# Altium footprint library ADM4168EBRUZ.PcbLib: 3 footprints
Each footprint in its own frame and in the unit in brackets; x right, y up, seen from the top. Pads: shape width x height; smd on the part's side, far side on the other; paste and mask are expansions set on the pad; w line width, h text height; cw(c..) or ccw(c..) is an arc to the next point about the centre after c.
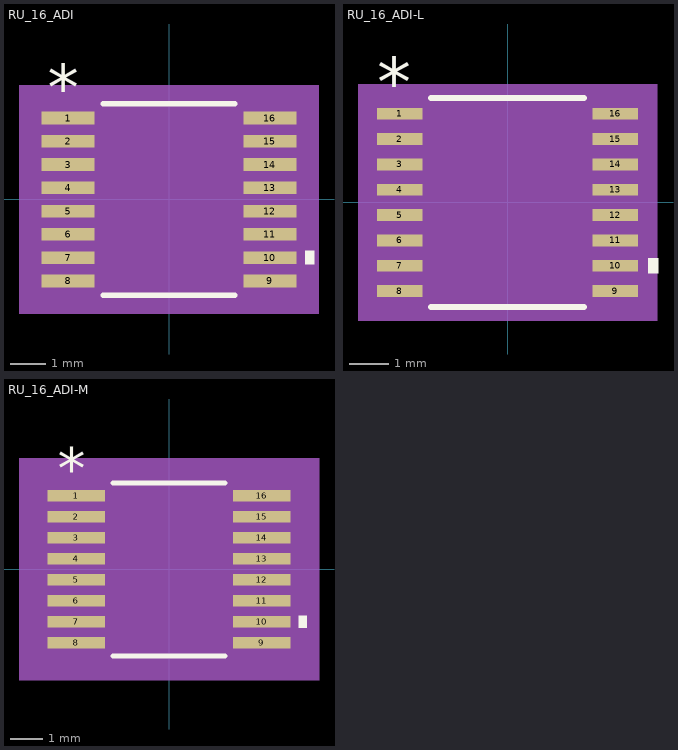
[diagram p0: the footprints below, top view; thin cyan lines are the x and y axes]

## RU_16_ADI [mil]
pads (16):
  rect 58x14 smd paste+0 mask+0: 1(-111,89.57) 2(-111,63.98) 3(-111,38.39) 4(-111,12.8) 5(-111,-12.8) 6(-111,-38.39) 7(-111,-63.98) 8(-111,-89.57) 9(111,-89.57) 10(111,-63.98) 11(111,-38.39) 12(111,-12.8) 13(111,12.8) 14(111,38.39) 15(111,63.98) 16(111,89.57)
Top Overlay:
  region: 150,-56.48 160,-56.48 160,-71.48 150,-71.48
  lines w6: -72.42,-105.5 72.42,-105.5 ; -72.42,105.5 72.42,105.5
  text "*" at -133.5,98.57 h50
Mechanical 5:
  region: 165,-125.5 -165,-125.5 -165,125.5 165,125.5
Mechanical 13:
  lines w0: -12,100.5 ccw(c0,100.5) 12,100.5
  lines w1: -126,-95.57 -126,-83.57 -88.5,-83.57 -88.5,-95.57 -126,-95.57 ; -126,-69.98 -126,-57.98 -88.5,-57.98 -88.5,-69.98 -126,-69.98 ; -126,-44.39 -126,-32.39 -88.5,-32.39 -88.5,-44.39 -126,-44.39 ; -126,-18.8 -126,-6.8 -88.5,-6.8 -88.5,-18.8 -126,-18.8 ; -126,6.8 -126,18.8 -88.5,18.8 -88.5,6.8 -126,6.8 ; -126,32.39 -126,44.39 -88.5,44.39 -88.5,32.39 -126,32.39 ; -126,57.98 -126,69.98 -88.5,69.98 -88.5,57.98 -126,57.98 ; -126,83.57 -126,95.57 -88.5,95.57 -88.5,83.57 -126,83.57 ; -88.5,-100.5 88.5,-100.5 88.5,100.5 -88.5,100.5 -88.5,-100.5 ; 88.5,-95.57 88.5,-83.57 126,-83.57 126,-95.57 88.5,-95.57 ; 88.5,-69.98 88.5,-57.98 126,-57.98 126,-69.98 88.5,-69.98 ; 88.5,-44.39 88.5,-32.39 126,-32.39 126,-44.39 88.5,-44.39 ; 88.5,-18.8 88.5,-6.8 126,-6.8 126,-18.8 88.5,-18.8 ; 88.5,6.8 88.5,18.8 126,18.8 126,6.8 88.5,6.8 ; 88.5,32.39 88.5,44.39 126,44.39 126,32.39 88.5,32.39 ; 88.5,57.98 88.5,69.98 126,69.98 126,57.98 88.5,57.98 ; 88.5,83.57 88.5,95.57 126,95.57 126,83.57 88.5,83.57
  text "*" at -86,47.5 h50
Mechanical 15:
  region: -98.5,-106.57 -150,-106.57 -150,106.57 -98.5,106.57 -98.5,110.5 98.5,110.5 98.5,106.57 150,106.57 150,-106.57 98.5,-106.57 98.5,-110.5 -98.5,-110.5
  lines w6: -150,-106.57 -150,106.57 -98.5,106.57 -98.5,110.5 98.5,110.5 98.5,106.57 150,106.57 150,-106.57 98.5,-106.57 98.5,-110.5 -98.5,-110.5 -98.5,-106.57 -150,-106.57
3D body "RU_16_ADI.step": height 47.09, standoff 0, extent -125.98,-100.51 125.98,100.51

## RU_16_ADI-L [mil]
pads (16):
  rect 46x12 smd paste+0 mask+0: 1(-109,89.57) 2(-109,63.98) 3(-109,38.39) 4(-109,12.8) 5(-109,-12.8) 6(-109,-38.39) 7(-109,-63.98) 8(-109,-89.57) 9(109,-89.57) 10(109,-63.98) 11(109,-38.39) 12(109,-12.8) 13(109,12.8) 14(109,38.39) 15(109,63.98) 16(109,89.57)
Top Overlay:
  region: 142,-56.48 152,-56.48 152,-71.48 142,-71.48
  lines w6: -77.46,-105.5 77.46,-105.5 ; -77.46,105.5 77.46,105.5
  text "*" at -131.5,96.57 h50
Mechanical 5:
  region: 151,-119.5 -151,-119.5 -151,119.5 151,119.5
Mechanical 13:
  lines w0: -12,100.5 ccw(c0,100.5) 12,100.5
  lines w1: -126,-95.57 -126,-83.57 -88.5,-83.57 -88.5,-95.57 -126,-95.57 ; -126,-69.98 -126,-57.98 -88.5,-57.98 -88.5,-69.98 -126,-69.98 ; -126,-44.39 -126,-32.39 -88.5,-32.39 -88.5,-44.39 -126,-44.39 ; -126,-18.8 -126,-6.8 -88.5,-6.8 -88.5,-18.8 -126,-18.8 ; -126,6.8 -126,18.8 -88.5,18.8 -88.5,6.8 -126,6.8 ; -126,32.39 -126,44.39 -88.5,44.39 -88.5,32.39 -126,32.39 ; -126,57.98 -126,69.98 -88.5,69.98 -88.5,57.98 -126,57.98 ; -126,83.57 -126,95.57 -88.5,95.57 -88.5,83.57 -126,83.57 ; -88.5,-100.5 88.5,-100.5 88.5,100.5 -88.5,100.5 -88.5,-100.5 ; 88.5,-95.57 88.5,-83.57 126,-83.57 126,-95.57 88.5,-95.57 ; 88.5,-69.98 88.5,-57.98 126,-57.98 126,-69.98 88.5,-69.98 ; 88.5,-44.39 88.5,-32.39 126,-32.39 126,-44.39 88.5,-44.39 ; 88.5,-18.8 88.5,-6.8 126,-6.8 126,-18.8 88.5,-18.8 ; 88.5,6.8 88.5,18.8 126,18.8 126,6.8 88.5,6.8 ; 88.5,32.39 88.5,44.39 126,44.39 126,32.39 88.5,32.39 ; 88.5,57.98 88.5,69.98 126,69.98 126,57.98 88.5,57.98 ; 88.5,83.57 88.5,95.57 126,95.57 126,83.57 88.5,83.57
  text "*" at -86,47.5 h50
Mechanical 15:
  region: -92.5,-99.57 -136,-99.57 -136,99.57 -92.5,99.57 -92.5,104.5 92.5,104.5 92.5,99.57 136,99.57 136,-99.57 92.5,-99.57 92.5,-104.5 -92.5,-104.5
  lines w6: -136,-99.57 -136,99.57 -92.5,99.57 -92.5,104.5 92.5,104.5 92.5,99.57 136,99.57 136,-99.57 92.5,-99.57 92.5,-104.5 -92.5,-104.5 -92.5,-99.57 -136,-99.57
3D body "RU_16_ADI.step": height 47.09, standoff 0, extent -125.98,-100.51 125.98,100.51

## RU_16_ADI-M [mil]
pads (16):
  rect 70x14 smd paste+0 mask+0: 1(-113,89.57) 2(-113,63.98) 3(-113,38.39) 4(-113,12.8) 5(-113,-12.8) 6(-113,-38.39) 7(-113,-63.98) 8(-113,-89.57) 9(113,-89.57) 10(113,-63.98) 11(113,-38.39) 12(113,-12.8) 13(113,12.8) 14(113,38.39) 15(113,63.98) 16(113,89.57)
Top Overlay:
  region: 158,-56.48 168,-56.48 168,-71.48 158,-71.48
  lines w6: -68.42,-105.5 68.42,-105.5 ; -68.42,105.5 68.42,105.5
  text "*" at -135.5,98.57 h50
Mechanical 5:
  region: 183,-135.5 -183,-135.5 -183,135.5 183,135.5
Mechanical 13:
  lines w0: -12,100.5 ccw(c0,100.5) 12,100.5
  lines w1: -126,-95.57 -126,-83.57 -88.5,-83.57 -88.5,-95.57 -126,-95.57 ; -126,-69.98 -126,-57.98 -88.5,-57.98 -88.5,-69.98 -126,-69.98 ; -126,-44.39 -126,-32.39 -88.5,-32.39 -88.5,-44.39 -126,-44.39 ; -126,-18.8 -126,-6.8 -88.5,-6.8 -88.5,-18.8 -126,-18.8 ; -126,6.8 -126,18.8 -88.5,18.8 -88.5,6.8 -126,6.8 ; -126,32.39 -126,44.39 -88.5,44.39 -88.5,32.39 -126,32.39 ; -126,57.98 -126,69.98 -88.5,69.98 -88.5,57.98 -126,57.98 ; -126,83.57 -126,95.57 -88.5,95.57 -88.5,83.57 -126,83.57 ; -88.5,-100.5 88.5,-100.5 88.5,100.5 -88.5,100.5 -88.5,-100.5 ; 88.5,-95.57 88.5,-83.57 126,-83.57 126,-95.57 88.5,-95.57 ; 88.5,-69.98 88.5,-57.98 126,-57.98 126,-69.98 88.5,-69.98 ; 88.5,-44.39 88.5,-32.39 126,-32.39 126,-44.39 88.5,-44.39 ; 88.5,-18.8 88.5,-6.8 126,-6.8 126,-18.8 88.5,-18.8 ; 88.5,6.8 88.5,18.8 126,18.8 126,6.8 88.5,6.8 ; 88.5,32.39 88.5,44.39 126,44.39 126,32.39 88.5,32.39 ; 88.5,57.98 88.5,69.98 126,69.98 126,57.98 88.5,57.98 ; 88.5,83.57 88.5,95.57 126,95.57 126,83.57 88.5,83.57
  text "*" at -86,47.5 h50
Mechanical 15:
  region: -108.5,-116.57 -168,-116.57 -168,116.57 -108.5,116.57 -108.5,120.5 108.5,120.5 108.5,116.57 168,116.57 168,-116.57 108.5,-116.57 108.5,-120.5 -108.5,-120.5
  lines w6: -168,-116.57 -168,116.57 -108.5,116.57 -108.5,120.5 108.5,120.5 108.5,116.57 168,116.57 168,-116.57 108.5,-116.57 108.5,-120.5 -108.5,-120.5 -108.5,-116.57 -168,-116.57
3D body "RU_16_ADI.step": height 47.09, standoff 0, extent -125.98,-100.51 125.98,100.51